# EAGLE library part MAX1757EAI+ (library SamacSys_Parts)
MAXIM INTEGRATED PRODUCTS - MAX1757EAI+ - BATTERY CHARGER, LI-ION, 1.5A, SSOP-28 Source: Datasheet
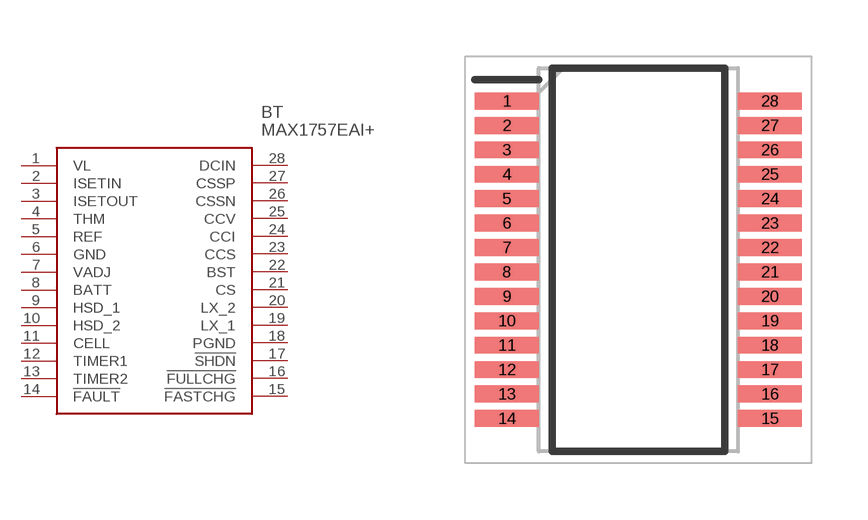
[diagram p3: symbol with the pads of SOP65P778X199-28N; footprint SOP65P778X199-28N]

Designator prefix BT

## MAX1757EAI+ (Description: MAXIM INTEGRATED PRODUCTS - MAX1757EAI+ - BATTERY CHARGER, LI-ION, 1.5A, SSOP-28; Height: 1.99mm; Manufacturer_Name: Maxim Integrated; Manufacturer_Part_Number: MAX1757EAI+; Mouser_Part_Number: 700-MAX1757EAI; Mouser_Price-Stock: https://www.mouser.co.uk/ProductDetail/Maxim-Integrated/MAX1757EAI%2b?qs=LHmEVA8xxfarn9BqsOBW5A%3D%3D)  [SOP65P778X199-28N]
1  VL
2  ISETIN
3  ISETOUT
4  THM
5  REF
6  GND
7  VADJ
8  BATT
9  HSD_1
10  HSD_2
11  CELL
12  TIMER1
13  TIMER2
14  !FAULT
15  !FASTCHG
16  !FULLCHG
17  !SHDN
18  PGND
19  LX_1
20  LX_2
21  CS
22  BST
23  CCS
24  CCI
25  CCV
26  CSSN
27  CSSP
28  DCIN

## Footprint SOP65P778X199-28N (pad centres in mm)
SSOP-28
smd 1.705 x 0.45: 1 -3.498,4.225; 2 -3.498,3.575; 3 -3.498,2.925; 4 -3.498,2.275; 5 -3.498,1.625; 6 -3.498,0.975; 7 -3.498,0.325; 8 -3.498,-0.325; 9 -3.498,-0.975; 10 -3.498,-1.625; 11 -3.498,-2.275; 12 -3.498,-2.925; 13 -3.498,-3.575; 14 -3.498,-4.225; 15 3.498,-4.225; 16 3.498,-3.575; 17 3.498,-2.925; 18 3.498,-2.275; 19 3.498,-1.625; 20 3.498,-0.975; 21 3.498,-0.325; 22 3.498,0.325; 23 3.498,0.975; 24 3.498,1.625; 25 3.498,2.275; 26 3.498,2.925; 27 3.498,3.575; 28 3.498,4.225